# EAGLE library part TEXAS_INSTRUMENTS-MICROCONTROLLER-TMS320F28388D (library Module_ICs)
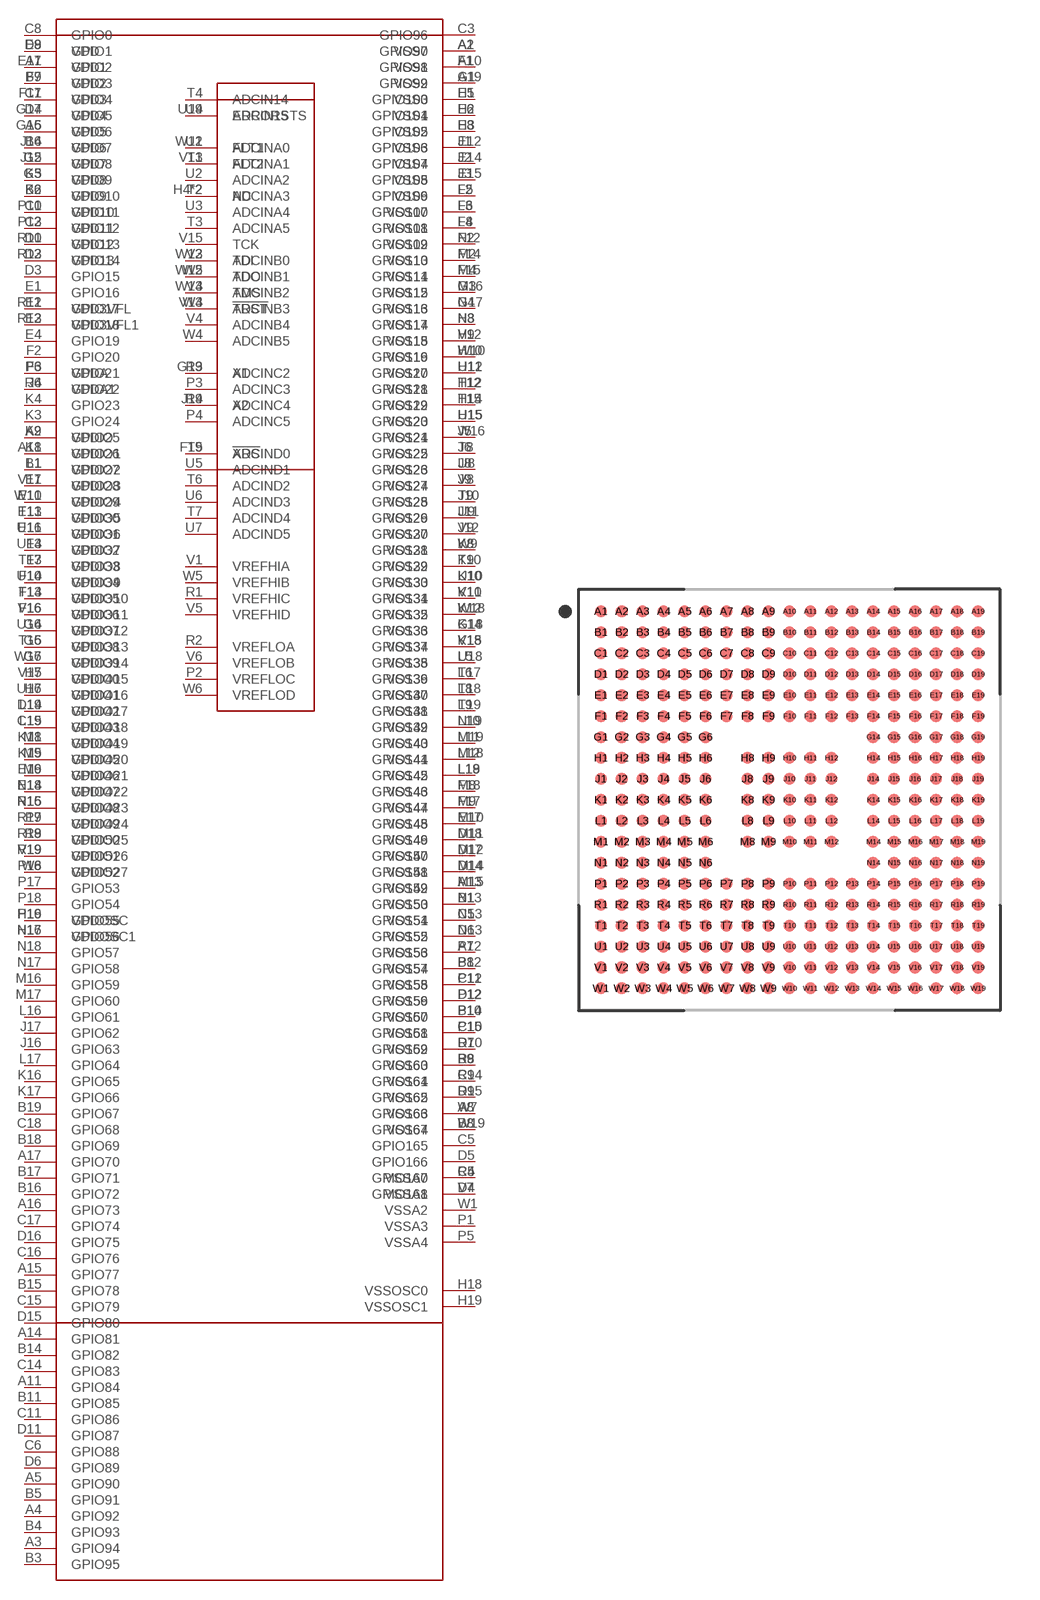
[diagram p55: symbol with the pads of TEXAS_INSTRUMENTS-MICROCONTROLLER-TMS320F28388D; footprint TEXAS_INSTRUMENTS-MICROCONTROLLER-TMS320F28388D]

Designator prefix U; gates A=TEXAS_INSTRUMENTS-MICROCONTROLLER-TMS320F28388D-ANALOG B=TEXAS_INSTRUMENTS-MICROCONTROLLER-TMS320F28388D-GPIO C=TEXAS_INSTRUMENTS-MICROCONTROLLER-TMS320F28388D-POWER D=TEXAS_INSTRUMENTS-MICROCONTROLLER-TMS320F28388D-TEST

## TEXAS_INSTRUMENTS-MICROCONTROLLER-TMS320F28388D  [TEXAS_INSTRUMENTS-MICROCONTROLLER-TMS320F28388D]
A1  C:VSS0
A2  B:GPIO97
A3  B:GPIO94
A4  B:GPIO92
A5  B:GPIO90
A6  B:GPIO6
A7  B:GPIO2
A8  B:GPIO163
A9  C:VDDIO
A10  C:VSS1
A11  B:GPIO84
A12  B:GPIO153
A13  B:GPIO149
A14  B:GPIO81
A15  B:GPIO77
A16  B:GPIO73
A17  B:GPIO70
A18  C:VDDIO1
A19  C:VSS2
B1  C:VDDIO2
B2  B:GPIO10
B3  B:GPIO95
B4  B:GPIO93
B5  B:GPIO91
B6  B:GPIO7
B7  B:GPIO3
B8  B:GPIO164
B9  B:GPIO160
B10  B:GPIO157
B11  B:GPIO85
B12  B:GPIO154
B13  B:GPIO150
B14  B:GPIO82
B15  B:GPIO78
B16  B:GPIO72
B17  B:GPIO71
B18  B:GPIO69
B19  B:GPIO67
C1  B:GPIO11
C2  B:GPIO12
C3  B:GPIO96
C4  B:GPIO167
C5  B:GPIO165
C6  B:GPIO88
C7  B:GPIO4
C8  B:GPIO0
C9  B:GPIO161
C10  B:GPIO158
C11  B:GPIO86
C12  B:GPIO155
C13  B:GPIO151
C14  B:GPIO83
C15  B:GPIO79
C16  B:GPIO76
C17  B:GPIO74
C18  B:GPIO68
C19  B:GPIO43
D1  B:GPIO13
D2  B:GPIO14
D3  B:GPIO15
D4  B:GPIO168
D5  B:GPIO166
D6  B:GPIO89
D7  B:GPIO5
D8  B:GPIO1
D9  B:GPIO162
D10  B:GPIO159
D11  B:GPIO87
D12  B:GPIO156
D13  B:GPIO152
D14  B:GPIO148
D15  B:GPIO80
D16  B:GPIO75
D17  B:GPIO147
D18  B:GPIO146
D19  B:GPIO42
E1  B:GPIO16
E2  B:GPIO17
E3  B:GPIO18
E4  B:GPIO19
E5  C:VSS3
E6  C:VSS4
E7  C:VDDIO3
E8  C:VSS5
E9  C:VDD
E10  C:VDDIO4
E11  C:VDD1
E12  C:VSS6
E13  C:VDDIO5
E14  C:VSS7
E15  C:VSS8
E16  C:VDDIO6
E17  B:GPIO145
E18  B:GPIO47
E19  B:GPIO46
F1  B:GPIO98
F2  B:GPIO20
F3  B:GPIO21
F4  C:VDDIO7
F5  C:VSS9
F6  C:VSS10
F7  C:VDDIO8
F8  C:VSS11
F9  C:VDD2
F10  C:VDDIO9
F11  C:VDD3
F12  C:VSS12
F13  C:VDDIO10
F14  C:VSS13
F15  C:VSS14
F16  C:VDDIO11
F17  B:GPIO144
F18  B:GPIO143
F19  D:!XRS
G1  B:GPIO99
G2  B:GPIO8
G3  B:GPIO9
G4  C:VDDIO12
G5  C:VDDIO13
G6  C:VDDIO14
G14  C:VDD4
G15  C:VDD5
G16  C:VSS15
G17  C:VSS16
G18  B:GPIO133
G19  D:X1
H1  B:GPIO100
H2  B:GPIO101
H3  B:GPIO102
H4  D:NC
H5  C:VDDIO15
H6  C:VDDIO16
H8  C:VSS17
H9  C:VSS18
H10  C:VSS19
H11  C:VSS20
H12  C:VSS21
H14  C:VSS22
H15  C:VSS23
H16  C:VDDOSC
H17  C:VDDOSC1
H18  C:VSSOSC0
H19  C:VSSOSC1
J1  B:GPIO103
J2  B:GPIO104
J3  B:GPIO105
J4  B:GPIO22
J5  C:VSS24
J6  C:VSS25
J8  C:VSS26
J9  C:VSS27
J10  C:VSS28
J11  C:VSS29
J12  C:VSS30
J14  C:VDD6
J15  C:VDD7
J16  B:GPIO63
J17  B:GPIO62
J18  D:NC
J19  D:X2
K1  B:GPIO26
K2  B:GPIO25
K3  B:GPIO24
K4  B:GPIO23
K5  C:VDD8
K6  C:VDD9
K8  C:VSS31
K9  C:VSS32
K10  C:VSS33
K11  C:VSS34
K12  C:VSS35
K14  C:VSS36
K15  C:VSS37
K16  B:GPIO65
K17  B:GPIO66
K18  B:GPIO44
K19  B:GPIO45
L1  B:GPIO27
L2  B:GPIO106
L3  B:GPIO107
L4  B:GPIO108
L5  C:VSS38
L6  C:VSS39
L8  C:VSS40
L9  C:VSS41
L10  C:VSS42
L11  C:VSS43
L12  C:VSS44
L14  C:VDDIO17
L15  C:VDDIO18
L16  B:GPIO61
L17  B:GPIO64
L18  C:VSS45
L19  B:GPIO142
M1  C:VDDIO19
M2  B:GPIO110
M3  B:GPIO112
M4  B:GPIO111
M5  C:VDDIO20
M6  C:VDDIO21
M8  C:VSS46
M9  C:VSS47
M10  C:VSS48
M11  C:VSS49
M12  C:VSS50
M14  C:VSS51
M15  C:VSS52
M16  B:GPIO59
M17  B:GPIO60
M18  B:GPIO141
M19  B:GPIO140
N1  C:VSS53
N2  B:GPIO109
N3  B:GPIO114
N4  B:GPIO113
N5  C:VSS54
N6  C:VSS55
N14  C:VDDIO22
N15  C:VDDIO23
N16  B:GPIO56
N17  B:GPIO58
N18  B:GPIO57
N19  B:GPIO139
P1  C:VSSA3
P2  A:VREFLOC
P3  A:ADCINC3
P4  A:ADCINC5
P5  C:VSSA4
P6  C:VDDA
P7  C:VSS56
P8  C:VSS57
P9  C:VDDIO24
P10  C:VDD10
P11  C:VSS58
P12  C:VSS59
P13  C:VDD11
P14  C:VSS60
P15  C:VSS61
P16  B:GPIO52
P17  B:GPIO53
P18  B:GPIO54
P19  B:GPIO55
R1  A:VREFHIC
R2  A:VREFLOA
R3  A:ADCINC2
R4  A:ADCINC4
R5  C:VSSA0
R6  C:VDDA1
R7  C:VSS62
R8  C:VSS63
R9  C:VDDIO25
R10  C:VDD12
R11  C:VDD3VFL
R12  C:VDD3VFL1
R13  C:VDD13
R14  C:VSS64
R15  C:VSS65
R16  B:GPIO48
R17  B:GPIO49
R18  B:GPIO50
R19  B:GPIO51
T1  A:ADCINA1
T2  A:ADCINA3
T3  A:ADCINA5
T4  A:ADCIN14
T5  A:ADCIND0
T6  A:ADCIND2
T7  A:ADCIND4
T8  B:GPIO122
T9  B:GPIO125
T10  B:GPIO129
T11  B:GPIO30
T12  B:GPIO118
T13  B:GPIO33
T14  B:GPIO35
T15  B:GPIO119
T16  B:GPIO38
T17  B:GPIO136
T18  B:GPIO137
T19  B:GPIO138
U1  A:ADCINA0
U2  A:ADCINA2
U3  A:ADCINA4
U4  A:ADCIN15
U5  A:ADCIND1
U6  A:ADCIND3
U7  A:ADCIND5
U8  B:GPIO123
U9  B:GPIO126
U10  B:GPIO130
U11  B:GPIO31
U12  B:GPIO117
U13  B:GPIO32
U14  B:GPIO34
U15  B:GPIO120
U16  B:GPIO37
U17  B:GPIO41
U18  B:GPIO135
U19  D:ERRORSTS
V1  A:VREFHIA
V2  A:ADCINB0
V3  A:ADCINB2
V4  A:ADCINB4
V5  A:VREFHID
V6  A:VREFLOB
V7  C:VSSA1
V8  B:GPIO124
V9  B:GPIO127
V10  B:GPIO131
V11  B:GPIO28
V12  B:GPIO115
V13  D:FLT2
V14  D:!TRST
V15  D:TCK
V16  B:GPIO36
V17  B:GPIO40
V18  B:GPIO134
V19  C:VDDIO26
W1  C:VSSA2
W2  A:ADCINB1
W3  A:ADCINB3
W4  A:ADCINB5
W5  A:VREFHIB
W6  A:VREFLOD
W7  C:VSS66
W8  C:VDDIO27
W9  B:GPIO128
W10  B:GPIO116
W11  B:GPIO29
W12  D:FLT1
W13  D:TDI
W14  D:TMS
W15  D:TDO
W16  B:GPIO121
W17  B:GPIO39
W18  B:GPIO132
W19  C:VSS67

## Footprint TEXAS_INSTRUMENTS-MICROCONTROLLER-TMS320F28388D (pad centres in mm)
361-BGA, collapsing, 0.80 mm pitch, 16.00 X 16.00 X 1.40 mm body 361-pin collapsing BGA package with 0.80 mm col pitch and 0.80 mm row pitch with body size 16.00 X 16.00 X 1.40 mm
smd 0.45 x 0.45: A1 -7.2,7.2; A2 -6.4,7.2; A3 -5.6,7.2; A4 -4.8,7.2; A5 -4,7.2; A6 -3.2,7.2; A7 -2.4,7.2; A8 -1.6,7.2; A9 -0.8,7.2; A10 0,7.2; A11 0.8,7.2; A12 1.6,7.2; A13 2.4,7.2; A14 3.2,7.2; A15 4,7.2; A16 4.8,7.2; A17 5.6,7.2; A18 6.4,7.2; A19 7.2,7.2; B1 -7.2,6.4; B2 -6.4,6.4; B3 -5.6,6.4; B4 -4.8,6.4; B5 -4,6.4; B6 -3.2,6.4; B7 -2.4,6.4; B8 -1.6,6.4; B9 -0.8,6.4; B10 0,6.4; B11 0.8,6.4; B12 1.6,6.4; B13 2.4,6.4; B14 3.2,6.4; B15 4,6.4; B16 4.8,6.4; B17 5.6,6.4; B18 6.4,6.4; B19 7.2,6.4; C1 -7.2,5.6; C2 -6.4,5.6; C3 -5.6,5.6; C4 -4.8,5.6; C5 -4,5.6; C6 -3.2,5.6; C7 -2.4,5.6; C8 -1.6,5.6; C9 -0.8,5.6; C10 0,5.6; C11 0.8,5.6; C12 1.6,5.6; C13 2.4,5.6; C14 3.2,5.6; C15 4,5.6; C16 4.8,5.6; C17 5.6,5.6; C18 6.4,5.6; C19 7.2,5.6; D1 -7.2,4.8; D2 -6.4,4.8; D3 -5.6,4.8; D4 -4.8,4.8; D5 -4,4.8; D6 -3.2,4.8; D7 -2.4,4.8; D8 -1.6,4.8; D9 -0.8,4.8; D10 0,4.8; D11 0.8,4.8; D12 1.6,4.8; D13 2.4,4.8; D14 3.2,4.8; D15 4,4.8; D16 4.8,4.8; D17 5.6,4.8; D18 6.4,4.8; D19 7.2,4.8; E1 -7.2,4; E2 -6.4,4; E3 -5.6,4; E4 -4.8,4; E5 -4,4; E6 -3.2,4; E7 -2.4,4; E8 -1.6,4; E9 -0.8,4; E10 0,4; E11 0.8,4; E12 1.6,4; E13 2.4,4; E14 3.2,4; E15 4,4; E16 4.8,4; E17 5.6,4; E18 6.4,4; E19 7.2,4; F1 -7.2,3.2; F2 -6.4,3.2; F3 -5.6,3.2; F4 -4.8,3.2; F5 -4,3.2; F6 -3.2,3.2; F7 -2.4,3.2; F8 -1.6,3.2; F9 -0.8,3.2; F10 0,3.2; F11 0.8,3.2; F12 1.6,3.2; F13 2.4,3.2; F14 3.2,3.2; F15 4,3.2; F16 4.8,3.2; F17 5.6,3.2; F18 6.4,3.2; F19 7.2,3.2; G1 -7.2,2.4; G2 -6.4,2.4; G3 -5.6,2.4; G4 -4.8,2.4; G5 -4,2.4; G6 -3.2,2.4; G14 3.2,2.4; G15 4,2.4; G16 4.8,2.4; G17 5.6,2.4; G18 6.4,2.4; G19 7.2,2.4; H1 -7.2,1.6; H2 -6.4,1.6; H3 -5.6,1.6; H4 -4.8,1.6; H5 -4,1.6; H6 -3.2,1.6; H8 -1.6,1.6; H9 -0.8,1.6; H10 0,1.6; H11 0.8,1.6; H12 1.6,1.6; H14 3.2,1.6; H15 4,1.6; H16 4.8,1.6; H17 5.6,1.6; H18 6.4,1.6; H19 7.2,1.6; J1 -7.2,0.8; J2 -6.4,0.8; J3 -5.6,0.8; J4 -4.8,0.8; J5 -4,0.8; J6 -3.2,0.8; J8 -1.6,0.8; J9 -0.8,0.8; J10 0,0.8; J11 0.8,0.8; J12 1.6,0.8; J14 3.2,0.8; J15 4,0.8; J16 4.8,0.8; J17 5.6,0.8; J18 6.4,0.8; J19 7.2,0.8; K1 -7.2,0; K2 -6.4,0; K3 -5.6,0; K4 -4.8,0; K5 -4,0; K6 -3.2,0; K8 -1.6,0; K9 -0.8,0; K10 0,0; K11 0.8,0; K12 1.6,0; K14 3.2,0; K15 4,0; K16 4.8,0; K17 5.6,0; K18 6.4,0; K19 7.2,0; L1 -7.2,-0.8; L2 -6.4,-0.8; L3 -5.6,-0.8; L4 -4.8,-0.8; L5 -4,-0.8; L6 -3.2,-0.8; L8 -1.6,-0.8; L9 -0.8,-0.8; L10 0,-0.8; L11 0.8,-0.8; L12 1.6,-0.8; L14 3.2,-0.8; L15 4,-0.8; L16 4.8,-0.8; L17 5.6,-0.8; L18 6.4,-0.8; L19 7.2,-0.8; M1 -7.2,-1.6; M2 -6.4,-1.6; M3 -5.6,-1.6; M4 -4.8,-1.6; M5 -4,-1.6; M6 -3.2,-1.6; M8 -1.6,-1.6; M9 -0.8,-1.6; M10 0,-1.6; M11 0.8,-1.6; M12 1.6,-1.6; M14 3.2,-1.6; M15 4,-1.6; M16 4.8,-1.6; M17 5.6,-1.6; M18 6.4,-1.6; M19 7.2,-1.6; N1 -7.2,-2.4; N2 -6.4,-2.4; N3 -5.6,-2.4; N4 -4.8,-2.4; N5 -4,-2.4; N6 -3.2,-2.4; N14 3.2,-2.4; N15 4,-2.4; N16 4.8,-2.4; N17 5.6,-2.4; N18 6.4,-2.4; N19 7.2,-2.4; P1 -7.2,-3.2; P2 -6.4,-3.2; P3 -5.6,-3.2; P4 -4.8,-3.2; P5 -4,-3.2; P6 -3.2,-3.2; P7 -2.4,-3.2; P8 -1.6,-3.2; P9 -0.8,-3.2; P10 0,-3.2; P11 0.8,-3.2; P12 1.6,-3.2; P13 2.4,-3.2; P14 3.2,-3.2; P15 4,-3.2; P16 4.8,-3.2; P17 5.6,-3.2; P18 6.4,-3.2; P19 7.2,-3.2; R1 -7.2,-4; R2 -6.4,-4; R3 -5.6,-4; R4 -4.8,-4; R5 -4,-4; R6 -3.2,-4; R7 -2.4,-4; R8 -1.6,-4; R9 -0.8,-4; R10 0,-4; R11 0.8,-4; R12 1.6,-4; R13 2.4,-4; R14 3.2,-4; R15 4,-4; R16 4.8,-4; R17 5.6,-4; R18 6.4,-4; R19 7.2,-4; T1 -7.2,-4.8; T2 -6.4,-4.8; T3 -5.6,-4.8; T4 -4.8,-4.8; T5 -4,-4.8; T6 -3.2,-4.8; T7 -2.4,-4.8; T8 -1.6,-4.8; T9 -0.8,-4.8; T10 0,-4.8; T11 0.8,-4.8; T12 1.6,-4.8; T13 2.4,-4.8; T14 3.2,-4.8; T15 4,-4.8; T16 4.8,-4.8; T17 5.6,-4.8; T18 6.4,-4.8; T19 7.2,-4.8; U1 -7.2,-5.6; U2 -6.4,-5.6; U3 -5.6,-5.6; U4 -4.8,-5.6; U5 -4,-5.6; U6 -3.2,-5.6; U7 -2.4,-5.6; U8 -1.6,-5.6; U9 -0.8,-5.6; U10 0,-5.6; U11 0.8,-5.6; U12 1.6,-5.6; U13 2.4,-5.6; U14 3.2,-5.6; U15 4,-5.6; U16 4.8,-5.6; U17 5.6,-5.6; U18 6.4,-5.6; U19 7.2,-5.6; V1 -7.2,-6.4; V2 -6.4,-6.4; V3 -5.6,-6.4; V4 -4.8,-6.4; V5 -4,-6.4; V6 -3.2,-6.4; V7 -2.4,-6.4; V8 -1.6,-6.4; V9 -0.8,-6.4; V10 0,-6.4; V11 0.8,-6.4; V12 1.6,-6.4; V13 2.4,-6.4; V14 3.2,-6.4; V15 4,-6.4; V16 4.8,-6.4; V17 5.6,-6.4; V18 6.4,-6.4; V19 7.2,-6.4; W1 -7.2,-7.2; W2 -6.4,-7.2; W3 -5.6,-7.2; W4 -4.8,-7.2; W5 -4,-7.2; W6 -3.2,-7.2; W7 -2.4,-7.2; W8 -1.6,-7.2; W9 -0.8,-7.2; W10 0,-7.2; W11 0.8,-7.2; W12 1.6,-7.2; W13 2.4,-7.2; W14 3.2,-7.2; W15 4,-7.2; W16 4.8,-7.2; W17 5.6,-7.2; W18 6.4,-7.2; W19 7.2,-7.2